# Altium schematic symbol library ADS1115BQDGSRQ1.SchLib: 1 symbol
Pins are listed as number, name and electrical type; pins without a type are passive.

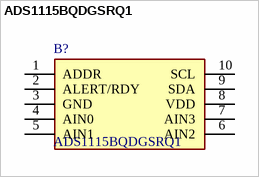
[diagram p0: symbol ADS1115BQDGSRQ1]

## ADS1115BQDGSRQ1
designator B?
Automotive 16-Bit 860SPS 4-Ch Delta-Sigma ADC With PGA, Oscillator, VREF, Comparator, and I2C; Manufacturer_Name: Texas Instruments; Geometry.Height: 1.1mm; Mouser Part Number: 595-ADS1115BQDGSRQ1; Mouser Price/Stock: https://www.mouser.co.uk/ProductDetail/Texas-Instruments/ADS1115BQDGSRQ1?qs=34RfhUjJmKdvyLrkbnfjHA%3D%3D; Manufacturer_Part_Number: ADS1115BQDGSRQ1; Datasheet Link: http://www.ti.com/lit/gpn/ads1115-q1
footprint SOP50P490X110-10N
pins: 1 ADDR, 2 ALERT/RDY, 3 GND, 4 AIN0, 5 AIN1, 6 AIN2, 7 AIN3, 8 VDD, 9 SDA, 10 SCL